# Altium schematic symbol library 可控硅.SchLib: 525 symbols (part 1 of 2)
Pins are listed as number, name and electrical type; pins without a type are passive.

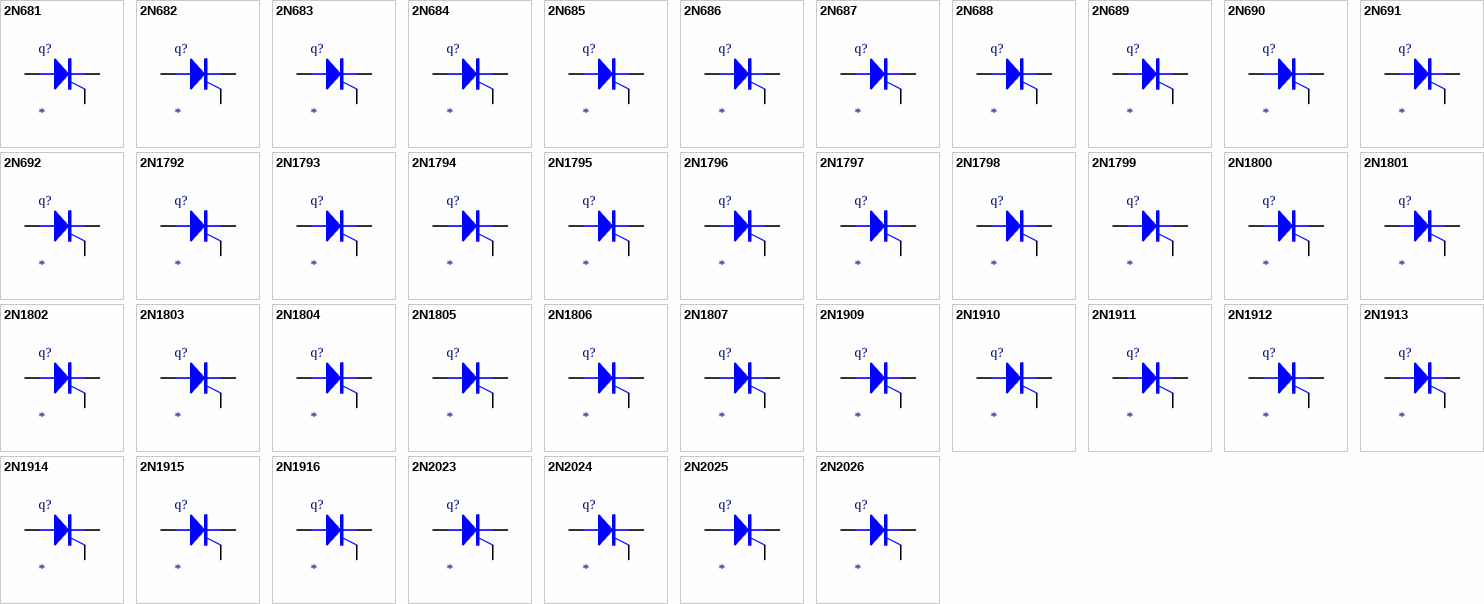
[diagram p0: symbols 2N681 to 2N2026]

## 2N681
designator q?
Silicon Controlled Rectifier
simulation model 2N681 (SUBCKT)
pins: 1 A, 2 G, 3 K
1 alternate drawing of the same symbol

## 2N682
designator q?
Silicon Controlled Rectifier
simulation model 2N682 (SUBCKT)
pins: 1 A, 2 G, 3 K
1 alternate drawing of the same symbol

## 2N683
designator q?
Silicon Controlled Rectifier
simulation model 2N683 (SUBCKT)
pins: 1 A, 2 G, 3 K
1 alternate drawing of the same symbol

## 2N684
designator q?
Silicon Controlled Rectifier
simulation model 2N684 (SUBCKT)
pins: 1 A, 2 G, 3 K
1 alternate drawing of the same symbol

## 2N685
designator q?
Silicon Controlled Rectifier
simulation model 2N685 (SUBCKT)
pins: 1 A, 2 G, 3 K
1 alternate drawing of the same symbol

## 2N686
designator q?
Silicon Controlled Rectifier
simulation model 2N686 (SUBCKT)
pins: 1 A, 2 G, 3 K
1 alternate drawing of the same symbol

## 2N687
designator q?
Silicon Controlled Rectifier
simulation model 2N687 (SUBCKT)
pins: 1 A, 2 G, 3 K
1 alternate drawing of the same symbol

## 2N688
designator q?
Silicon Controlled Rectifier
simulation model 2N688 (SUBCKT)
pins: 1 A, 2 G, 3 K
1 alternate drawing of the same symbol

## 2N689
designator q?
Silicon Controlled Rectifier
simulation model 2N689 (SUBCKT)
pins: 1 A, 2 G, 3 K
1 alternate drawing of the same symbol

## 2N690
designator q?
Silicon Controlled Rectifier
simulation model 2N690 (SUBCKT)
pins: 1 A, 2 G, 3 K
1 alternate drawing of the same symbol

## 2N691
designator q?
Silicon Controlled Rectifier
simulation model 2N691 (SUBCKT)
pins: 1 A, 2 G, 3 K
1 alternate drawing of the same symbol

## 2N692
designator q?
Silicon Controlled Rectifier
simulation model 2N692 (SUBCKT)
pins: 1 A, 2 G, 3 K
1 alternate drawing of the same symbol

## 2N1792
designator q?
Silicon Controlled Rectifier
simulation model 2N1792 (SUBCKT)
pins: 1 A, 2 G, 3 K
1 alternate drawing of the same symbol

## 2N1793
designator q?
Silicon Controlled Rectifier
simulation model 2N1793 (SUBCKT)
pins: 1 A, 2 G, 3 K
1 alternate drawing of the same symbol

## 2N1794
designator q?
Silicon Controlled Rectifier
simulation model 2N1794 (SUBCKT)
pins: 1 A, 2 G, 3 K
1 alternate drawing of the same symbol

## 2N1795
designator q?
Silicon Controlled Rectifier
simulation model 2N1795 (SUBCKT)
pins: 1 A, 2 G, 3 K
1 alternate drawing of the same symbol

## 2N1796
designator q?
Silicon Controlled Rectifier
simulation model 2N1796 (SUBCKT)
pins: 1 A, 2 G, 3 K
1 alternate drawing of the same symbol

## 2N1797
designator q?
Silicon Controlled Rectifier
simulation model 2N1797 (SUBCKT)
pins: 1 A, 2 G, 3 K
1 alternate drawing of the same symbol

## 2N1798
designator q?
Silicon Controlled Rectifier
simulation model 2N1798 (SUBCKT)
pins: 1 A, 2 G, 3 K
1 alternate drawing of the same symbol

## 2N1799
designator q?
Silicon Controlled Rectifier
simulation model 2N1799 (SUBCKT)
pins: 1 A, 2 G, 3 K
1 alternate drawing of the same symbol

## 2N1800
designator q?
Silicon Controlled Rectifier
simulation model 2N1800 (SUBCKT)
pins: 1 A, 2 G, 3 K
1 alternate drawing of the same symbol

## 2N1801
designator q?
Silicon Controlled Rectifier
simulation model 2N1801 (SUBCKT)
pins: 1 A, 2 G, 3 K
1 alternate drawing of the same symbol

## 2N1802
designator q?
Silicon Controlled Rectifier
simulation model 2N1802 (SUBCKT)
pins: 1 A, 2 G, 3 K
1 alternate drawing of the same symbol

## 2N1803
designator q?
Silicon Controlled Rectifier
simulation model 2N1803 (SUBCKT)
pins: 1 A, 2 G, 3 K
1 alternate drawing of the same symbol

## 2N1804
designator q?
Silicon Controlled Rectifier
simulation model 2N1804 (SUBCKT)
pins: 1 A, 2 G, 3 K
1 alternate drawing of the same symbol

## 2N1805
designator q?
Silicon Controlled Rectifier
simulation model 2N1805 (SUBCKT)
pins: 1 A, 2 G, 3 K
1 alternate drawing of the same symbol

## 2N1806
designator q?
Silicon Controlled Rectifier
simulation model 2N1806 (SUBCKT)
pins: 1 A, 2 G, 3 K
1 alternate drawing of the same symbol

## 2N1807
designator q?
Silicon Controlled Rectifier
simulation model 2N1807 (SUBCKT)
pins: 1 A, 2 G, 3 K
1 alternate drawing of the same symbol

## 2N1909
designator q?
Silicon Controlled Rectifier
simulation model 2N1909 (SUBCKT)
pins: 1 A, 2 G, 3 K
1 alternate drawing of the same symbol

## 2N1910
designator q?
Silicon Controlled Rectifier
simulation model 2N1910 (SUBCKT)
pins: 1 A, 2 G, 3 K
1 alternate drawing of the same symbol

## 2N1911
designator q?
Silicon Controlled Rectifier
simulation model 2N1911 (SUBCKT)
pins: 1 A, 2 G, 3 K
1 alternate drawing of the same symbol

## 2N1912
designator q?
Silicon Controlled Rectifier
simulation model 2N1912 (SUBCKT)
pins: 1 A, 2 G, 3 K
1 alternate drawing of the same symbol

## 2N1913
designator q?
Silicon Controlled Rectifier
simulation model 2N1913 (SUBCKT)
pins: 1 A, 2 G, 3 K
1 alternate drawing of the same symbol

## 2N1914
designator q?
Silicon Controlled Rectifier
simulation model 2N1914 (SUBCKT)
pins: 1 A, 2 G, 3 K
1 alternate drawing of the same symbol

## 2N1915
designator q?
Silicon Controlled Rectifier
simulation model 2N1915 (SUBCKT)
pins: 1 A, 2 G, 3 K
1 alternate drawing of the same symbol

## 2N1916
designator q?
Silicon Controlled Rectifier
simulation model 2N1916 (SUBCKT)
pins: 1 A, 2 G, 3 K
1 alternate drawing of the same symbol

## 2N2023
designator q?
Silicon Controlled Rectifier
simulation model 2N2023 (SUBCKT)
pins: 1 A, 2 G, 3 K
1 alternate drawing of the same symbol

## 2N2024
designator q?
Silicon Controlled Rectifier
simulation model 2N2024 (SUBCKT)
pins: 1 A, 2 G, 3 K
1 alternate drawing of the same symbol

## 2N2025
designator q?
Silicon Controlled Rectifier
simulation model 2N2025 (SUBCKT)
pins: 1 A, 2 G, 3 K
1 alternate drawing of the same symbol

## 2N2026
designator q?
Silicon Controlled Rectifier
simulation model 2N2026 (SUBCKT)
pins: 1 A, 2 G, 3 K
1 alternate drawing of the same symbol

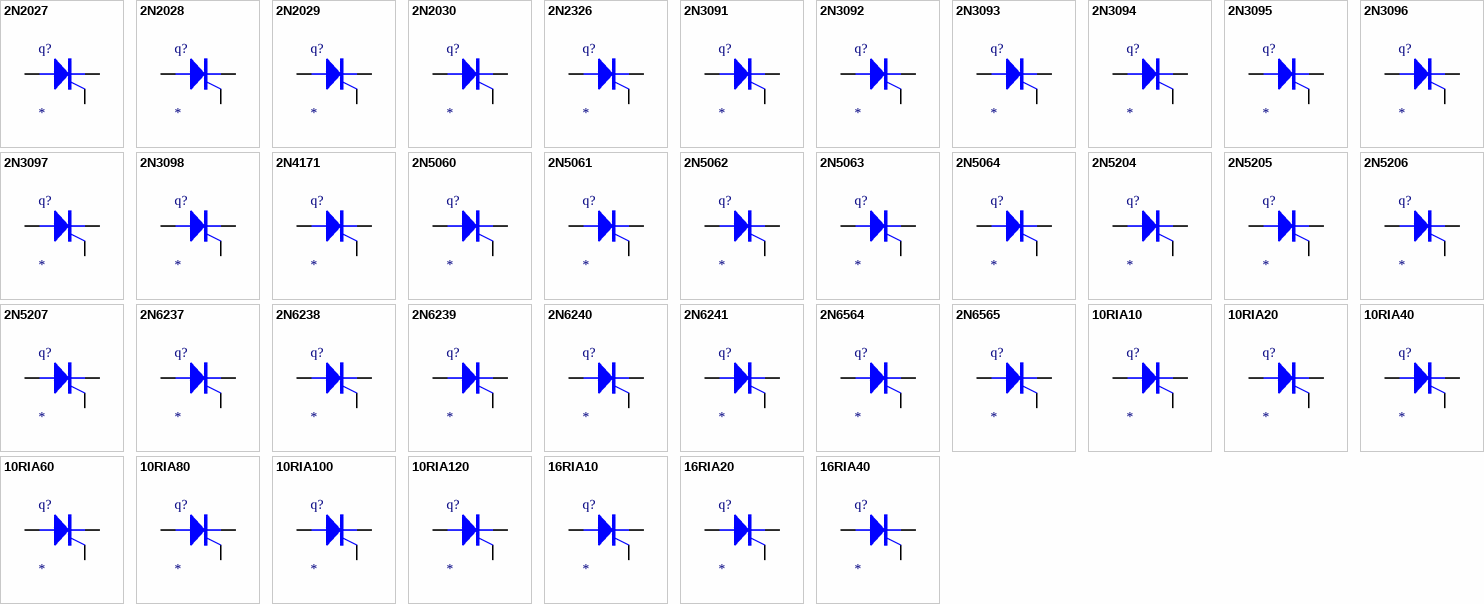
[diagram p1: symbols 2N2027 to 16RIA40]

## 2N2027
designator q?
Silicon Controlled Rectifier
simulation model 2N2027 (SUBCKT)
pins: 1 A, 2 G, 3 K
1 alternate drawing of the same symbol

## 2N2028
designator q?
Silicon Controlled Rectifier
simulation model 2N2028 (SUBCKT)
pins: 1 A, 2 G, 3 K
1 alternate drawing of the same symbol

## 2N2029
designator q?
Silicon Controlled Rectifier
simulation model 2N2029 (SUBCKT)
pins: 1 A, 2 G, 3 K
1 alternate drawing of the same symbol

## 2N2030
designator q?
Silicon Controlled Rectifier
simulation model 2N2030 (SUBCKT)
pins: 1 A, 2 G, 3 K
1 alternate drawing of the same symbol

## 2N2326
designator q?
Silicon Controlled Rectifier
simulation model 2N2326 (SUBCKT)
pins: 1 A, 2 G, 3 K
1 alternate drawing of the same symbol

## 2N3091
designator q?
Silicon Controlled Rectifier
simulation model 2N3091 (SUBCKT)
pins: 1 A, 2 G, 3 K
1 alternate drawing of the same symbol

## 2N3092
designator q?
Silicon Controlled Rectifier
simulation model 2N3092 (SUBCKT)
pins: 1 A, 2 G, 3 K
1 alternate drawing of the same symbol

## 2N3093
designator q?
Silicon Controlled Rectifier
simulation model 2N3093 (SUBCKT)
pins: 1 A, 2 G, 3 K
1 alternate drawing of the same symbol

## 2N3094
designator q?
Silicon Controlled Rectifier
simulation model 2N3094 (SUBCKT)
pins: 1 A, 2 G, 3 K
1 alternate drawing of the same symbol

## 2N3095
designator q?
Silicon Controlled Rectifier
simulation model 2N3095 (SUBCKT)
pins: 1 A, 2 G, 3 K
1 alternate drawing of the same symbol

## 2N3096
designator q?
Silicon Controlled Rectifier
simulation model 2N3096 (SUBCKT)
pins: 1 A, 2 G, 3 K
1 alternate drawing of the same symbol

## 2N3097
designator q?
Silicon Controlled Rectifier
simulation model 2N3097 (SUBCKT)
pins: 1 A, 2 G, 3 K
1 alternate drawing of the same symbol

## 2N3098
designator q?
Silicon Controlled Rectifier
simulation model 2N3098 (SUBCKT)
pins: 1 A, 2 G, 3 K
1 alternate drawing of the same symbol

## 2N4171
designator q?
Silicon Controlled Rectifier
simulation model 2N4171 (SUBCKT)
pins: 1 A, 2 G, 3 K
1 alternate drawing of the same symbol

## 2N5060
designator q?
Silicon Controlled Rectifier
simulation model 2N5060 (SUBCKT)
pins: 1 A, 2 G, 3 K
1 alternate drawing of the same symbol

## 2N5061
designator q?
Silicon Controlled Rectifier
simulation model 2N5061 (SUBCKT)
pins: 1 A, 2 G, 3 K
1 alternate drawing of the same symbol

## 2N5062
designator q?
Silicon Controlled Rectifier
simulation model 2N5062 (SUBCKT)
pins: 1 A, 2 G, 3 K
1 alternate drawing of the same symbol

## 2N5063
designator q?
Silicon Controlled Rectifier
simulation model 2N5063 (SUBCKT)
pins: 1 A, 2 G, 3 K
1 alternate drawing of the same symbol

## 2N5064
designator q?
Silicon Controlled Rectifier
simulation model 2N5064 (SUBCKT)
pins: 1 A, 2 G, 3 K
1 alternate drawing of the same symbol

## 2N5204
designator q?
Silicon Controlled Rectifier
simulation model 2N5204 (SUBCKT)
pins: 1 A, 2 G, 3 K
1 alternate drawing of the same symbol

## 2N5205
designator q?
Silicon Controlled Rectifier
simulation model 2N5205 (SUBCKT)
pins: 1 A, 2 G, 3 K
1 alternate drawing of the same symbol

## 2N5206
designator q?
Silicon Controlled Rectifier
simulation model 2N5206 (SUBCKT)
pins: 1 A, 2 G, 3 K
1 alternate drawing of the same symbol

## 2N5207
designator q?
Silicon Controlled Rectifier
simulation model 2N5207 (SUBCKT)
pins: 1 A, 2 G, 3 K
1 alternate drawing of the same symbol

## 2N6237
designator q?
Silicon Controlled Rectifier
simulation model 2N6237 (SUBCKT)
pins: 1 A, 2 G, 3 K
1 alternate drawing of the same symbol

## 2N6238
designator q?
Silicon Controlled Rectifier
simulation model 2N6238 (SUBCKT)
pins: 1 A, 2 G, 3 K
1 alternate drawing of the same symbol

## 2N6239
designator q?
Silicon Controlled Rectifier
simulation model 2N6239 (SUBCKT)
pins: 1 A, 2 G, 3 K
1 alternate drawing of the same symbol

## 2N6240
designator q?
Silicon Controlled Rectifier
simulation model 2N6240 (SUBCKT)
pins: 1 A, 2 G, 3 K
1 alternate drawing of the same symbol

## 2N6241
designator q?
Silicon Controlled Rectifier
simulation model 2N6241 (SUBCKT)
pins: 1 A, 2 G, 3 K
1 alternate drawing of the same symbol

## 2N6564
designator q?
Silicon Controlled Rectifier
simulation model 2N6564 (SUBCKT)
pins: 1 A, 2 G, 3 K
1 alternate drawing of the same symbol

## 2N6565
designator q?
Silicon Controlled Rectifier
simulation model 2N6565 (SUBCKT)
pins: 1 A, 2 G, 3 K
1 alternate drawing of the same symbol

## 10RIA10
designator q?
Silicon Controlled Rectifier
simulation model 10RIA10 (SUBCKT)
pins: 1 A, 2 G, 3 K
1 alternate drawing of the same symbol

## 10RIA20
designator q?
Silicon Controlled Rectifier
simulation model 10RIA20 (SUBCKT)
pins: 1 A, 2 G, 3 K
1 alternate drawing of the same symbol

## 10RIA40
designator q?
Silicon Controlled Rectifier
simulation model 10RIA40 (SUBCKT)
pins: 1 A, 2 G, 3 K
1 alternate drawing of the same symbol

## 10RIA60
designator q?
Silicon Controlled Rectifier
simulation model 10RIA60 (SUBCKT)
pins: 1 A, 2 G, 3 K
1 alternate drawing of the same symbol

## 10RIA80
designator q?
Silicon Controlled Rectifier
simulation model 10RIA80 (SUBCKT)
pins: 1 A, 2 G, 3 K
1 alternate drawing of the same symbol

## 10RIA100
designator q?
Silicon Controlled Rectifier
simulation model 10RIA100 (SUBCKT)
pins: 1 A, 2 G, 3 K
1 alternate drawing of the same symbol

## 10RIA120
designator q?
Silicon Controlled Rectifier
simulation model 10RIA120 (SUBCKT)
pins: 1 A, 2 G, 3 K
1 alternate drawing of the same symbol

## 16RIA10
designator q?
Silicon Controlled Rectifier
simulation model 16RIA10 (SUBCKT)
pins: 1 A, 2 G, 3 K
1 alternate drawing of the same symbol

## 16RIA20
designator q?
Silicon Controlled Rectifier
simulation model 16RIA20 (SUBCKT)
pins: 1 A, 2 G, 3 K
1 alternate drawing of the same symbol

## 16RIA40
designator q?
Silicon Controlled Rectifier
simulation model 16RIA40 (SUBCKT)
pins: 1 A, 2 G, 3 K
1 alternate drawing of the same symbol

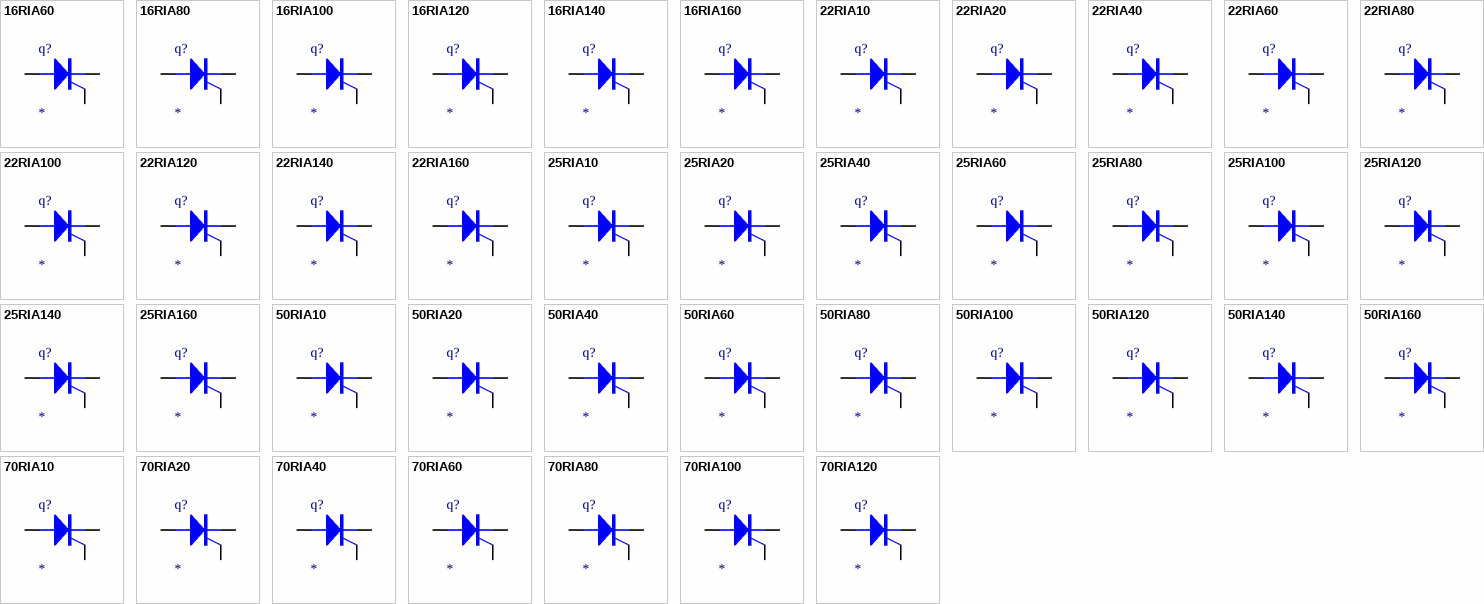
[diagram p2: symbols 16RIA60 to 70RIA120]

## 16RIA60
designator q?
Silicon Controlled Rectifier
simulation model 16RIA60 (SUBCKT)
pins: 1 A, 2 G, 3 K
1 alternate drawing of the same symbol

## 16RIA80
designator q?
Silicon Controlled Rectifier
simulation model 16RIA80 (SUBCKT)
pins: 1 A, 2 G, 3 K
1 alternate drawing of the same symbol

## 16RIA100
designator q?
Silicon Controlled Rectifier
simulation model 16RIA100 (SUBCKT)
pins: 1 A, 2 G, 3 K
1 alternate drawing of the same symbol

## 16RIA120
designator q?
Silicon Controlled Rectifier
simulation model 16RIA120 (SUBCKT)
pins: 1 A, 2 G, 3 K
1 alternate drawing of the same symbol

## 16RIA140
designator q?
Silicon Controlled Rectifier
simulation model 16RIA140 (SUBCKT)
pins: 1 A, 2 G, 3 K
1 alternate drawing of the same symbol

## 16RIA160
designator q?
Silicon Controlled Rectifier
simulation model 16RIA160 (SUBCKT)
pins: 1 A, 2 G, 3 K
1 alternate drawing of the same symbol

## 22RIA10
designator q?
Silicon Controlled Rectifier
simulation model 22RIA10 (SUBCKT)
pins: 1 A, 2 G, 3 K
1 alternate drawing of the same symbol

## 22RIA20
designator q?
Silicon Controlled Rectifier
simulation model 22RIA20 (SUBCKT)
pins: 1 A, 2 G, 3 K
1 alternate drawing of the same symbol

## 22RIA40
designator q?
Silicon Controlled Rectifier
simulation model 22RIA40 (SUBCKT)
pins: 1 A, 2 G, 3 K
1 alternate drawing of the same symbol

## 22RIA60
designator q?
Silicon Controlled Rectifier
simulation model 22RIA60 (SUBCKT)
pins: 1 A, 2 G, 3 K
1 alternate drawing of the same symbol

## 22RIA80
designator q?
Silicon Controlled Rectifier
simulation model 22RIA80 (SUBCKT)
pins: 1 A, 2 G, 3 K
1 alternate drawing of the same symbol

## 22RIA100
designator q?
Silicon Controlled Rectifier
simulation model 22RIA100 (SUBCKT)
pins: 1 A, 2 G, 3 K
1 alternate drawing of the same symbol

## 22RIA120
designator q?
Silicon Controlled Rectifier
simulation model 22RIA120 (SUBCKT)
pins: 1 A, 2 G, 3 K
1 alternate drawing of the same symbol

## 22RIA140
designator q?
Silicon Controlled Rectifier
simulation model 22RIA140 (SUBCKT)
pins: 1 A, 2 G, 3 K
1 alternate drawing of the same symbol

## 22RIA160
designator q?
Silicon Controlled Rectifier
simulation model 22RIA160 (SUBCKT)
pins: 1 A, 2 G, 3 K
1 alternate drawing of the same symbol

## 25RIA10
designator q?
Silicon Controlled Rectifier
simulation model 25RIA10 (SUBCKT)
pins: 1 A, 2 G, 3 K
1 alternate drawing of the same symbol

## 25RIA20
designator q?
Silicon Controlled Rectifier
simulation model 25RIA20 (SUBCKT)
pins: 1 A, 2 G, 3 K
1 alternate drawing of the same symbol

## 25RIA40
designator q?
Silicon Controlled Rectifier
simulation model 25RIA40 (SUBCKT)
pins: 1 A, 2 G, 3 K
1 alternate drawing of the same symbol

## 25RIA60
designator q?
Silicon Controlled Rectifier
simulation model 25RIA60 (SUBCKT)
pins: 1 A, 2 G, 3 K
1 alternate drawing of the same symbol

## 25RIA80
designator q?
Silicon Controlled Rectifier
simulation model 25RIA80 (SUBCKT)
pins: 1 A, 2 G, 3 K
1 alternate drawing of the same symbol

## 25RIA100
designator q?
Silicon Controlled Rectifier
simulation model 25RIA100 (SUBCKT)
pins: 1 A, 2 G, 3 K
1 alternate drawing of the same symbol

## 25RIA120
designator q?
Silicon Controlled Rectifier
simulation model 25RIA120 (SUBCKT)
pins: 1 A, 2 G, 3 K
1 alternate drawing of the same symbol

## 25RIA140
designator q?
Silicon Controlled Rectifier
simulation model 25RIA140 (SUBCKT)
pins: 1 A, 2 G, 3 K
1 alternate drawing of the same symbol

## 25RIA160
designator q?
Silicon Controlled Rectifier
simulation model 25RIA160 (SUBCKT)
pins: 1 A, 2 G, 3 K
1 alternate drawing of the same symbol

## 50RIA10
designator q?
Silicon Controlled Rectifier
simulation model 50RIA10 (SUBCKT)
pins: 1 A, 2 G, 3 K
1 alternate drawing of the same symbol

## 50RIA20
designator q?
Silicon Controlled Rectifier
simulation model 50RIA20 (SUBCKT)
pins: 1 A, 2 G, 3 K
1 alternate drawing of the same symbol

## 50RIA40
designator q?
Silicon Controlled Rectifier
simulation model 50RIA40 (SUBCKT)
pins: 1 A, 2 G, 3 K
1 alternate drawing of the same symbol

## 50RIA60
designator q?
Silicon Controlled Rectifier
simulation model 50RIA60 (SUBCKT)
pins: 1 A, 2 G, 3 K
1 alternate drawing of the same symbol

## 50RIA80
designator q?
Silicon Controlled Rectifier
simulation model 50RIA80 (SUBCKT)
pins: 1 A, 2 G, 3 K
1 alternate drawing of the same symbol

## 50RIA100
designator q?
Silicon Controlled Rectifier
simulation model 50RIA100 (SUBCKT)
pins: 1 A, 2 G, 3 K
1 alternate drawing of the same symbol

## 50RIA120
designator q?
Silicon Controlled Rectifier
simulation model 50RIA120 (SUBCKT)
pins: 1 A, 2 G, 3 K
1 alternate drawing of the same symbol

## 50RIA140
designator q?
Silicon Controlled Rectifier
simulation model 50RIA140 (SUBCKT)
pins: 1 A, 2 G, 3 K
1 alternate drawing of the same symbol

## 50RIA160
designator q?
Silicon Controlled Rectifier
simulation model 50RIA160 (SUBCKT)
pins: 1 A, 2 G, 3 K
1 alternate drawing of the same symbol

## 70RIA10
designator q?
Silicon Controlled Rectifier
simulation model 70RIA10 (SUBCKT)
pins: 1 A, 2 G, 3 K
1 alternate drawing of the same symbol

## 70RIA20
designator q?
Silicon Controlled Rectifier
simulation model 70RIA20 (SUBCKT)
pins: 1 A, 2 G, 3 K
1 alternate drawing of the same symbol

## 70RIA40
designator q?
Silicon Controlled Rectifier
simulation model 70RIA40 (SUBCKT)
pins: 1 A, 2 G, 3 K
1 alternate drawing of the same symbol

## 70RIA60
designator q?
Silicon Controlled Rectifier
simulation model 70RIA60 (SUBCKT)
pins: 1 A, 2 G, 3 K
1 alternate drawing of the same symbol

## 70RIA80
designator q?
Silicon Controlled Rectifier
simulation model 70RIA80 (SUBCKT)
pins: 1 A, 2 G, 3 K
1 alternate drawing of the same symbol

## 70RIA100
designator q?
Silicon Controlled Rectifier
simulation model 70RIA100 (SUBCKT)
pins: 1 A, 2 G, 3 K
1 alternate drawing of the same symbol

## 70RIA120
designator q?
Silicon Controlled Rectifier
simulation model 70RIA120 (SUBCKT)
pins: 1 A, 2 G, 3 K
1 alternate drawing of the same symbol

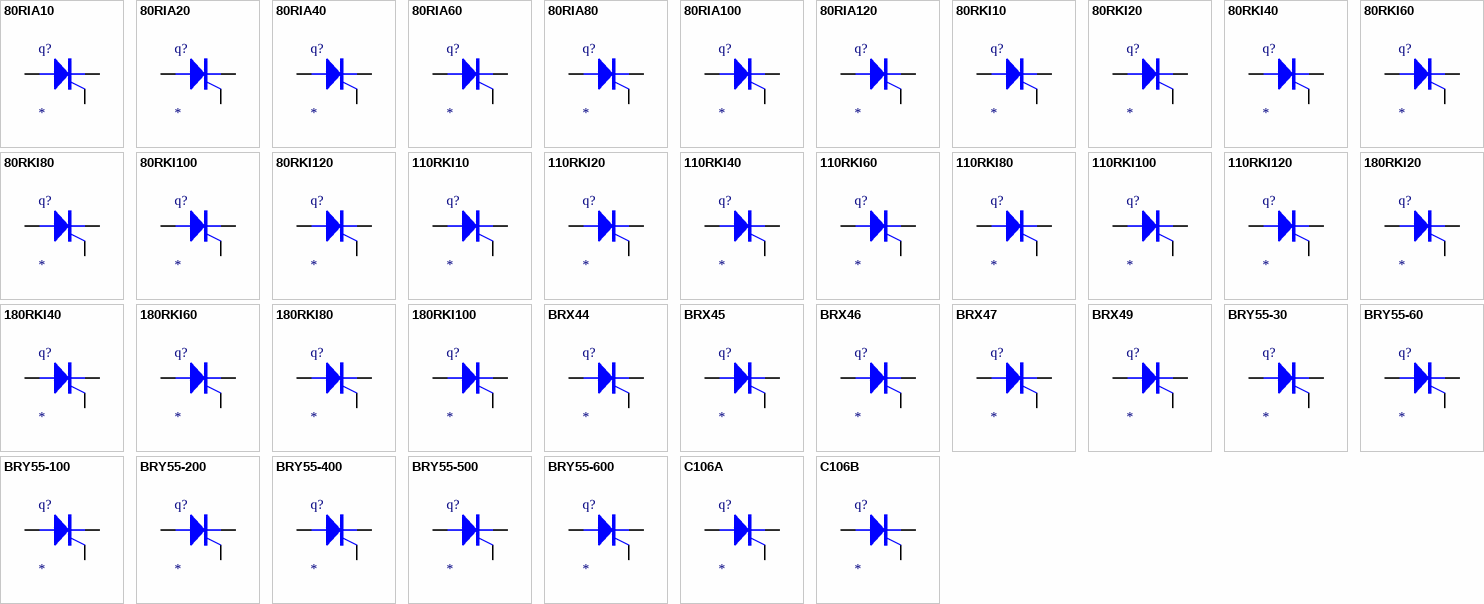
[diagram p3: symbols 80RIA10 to C106B]

## 80RIA10
designator q?
Silicon Controlled Rectifier
simulation model 80RIA10 (SUBCKT)
pins: 1 A, 2 G, 3 K
1 alternate drawing of the same symbol

## 80RIA20
designator q?
Silicon Controlled Rectifier
simulation model 80RIA20 (SUBCKT)
pins: 1 A, 2 G, 3 K
1 alternate drawing of the same symbol

## 80RIA40
designator q?
Silicon Controlled Rectifier
simulation model 80RIA40 (SUBCKT)
pins: 1 A, 2 G, 3 K
1 alternate drawing of the same symbol

## 80RIA60
designator q?
Silicon Controlled Rectifier
simulation model 80RIA60 (SUBCKT)
pins: 1 A, 2 G, 3 K
1 alternate drawing of the same symbol

## 80RIA80
designator q?
Silicon Controlled Rectifier
simulation model 80RIA80 (SUBCKT)
pins: 1 A, 2 G, 3 K
1 alternate drawing of the same symbol

## 80RIA100
designator q?
Silicon Controlled Rectifier
simulation model 80RIA100 (SUBCKT)
pins: 1 A, 2 G, 3 K
1 alternate drawing of the same symbol

## 80RIA120
designator q?
Silicon Controlled Rectifier
simulation model 80RIA120 (SUBCKT)
pins: 1 A, 2 G, 3 K
1 alternate drawing of the same symbol

## 80RKI10
designator q?
Silicon Controlled Rectifier
simulation model 80RKI10 (SUBCKT)
pins: 1 A, 2 G, 3 K
1 alternate drawing of the same symbol

## 80RKI20
designator q?
Silicon Controlled Rectifier
simulation model 80RKI20 (SUBCKT)
pins: 1 A, 2 G, 3 K
1 alternate drawing of the same symbol

## 80RKI40
designator q?
Silicon Controlled Rectifier
simulation model 80RKI40 (SUBCKT)
pins: 1 A, 2 G, 3 K
1 alternate drawing of the same symbol

## 80RKI60
designator q?
Silicon Controlled Rectifier
simulation model 80RKI60 (SUBCKT)
pins: 1 A, 2 G, 3 K
1 alternate drawing of the same symbol

## 80RKI80
designator q?
Silicon Controlled Rectifier
simulation model 80RKI80 (SUBCKT)
pins: 1 A, 2 G, 3 K
1 alternate drawing of the same symbol

## 80RKI100
designator q?
Silicon Controlled Rectifier
simulation model 80RKI100 (SUBCKT)
pins: 1 A, 2 G, 3 K
1 alternate drawing of the same symbol

## 80RKI120
designator q?
Silicon Controlled Rectifier
simulation model 80RKI120 (SUBCKT)
pins: 1 A, 2 G, 3 K
1 alternate drawing of the same symbol

## 110RKI10
designator q?
Silicon Controlled Rectifier
simulation model 110RKI10 (SUBCKT)
pins: 1 A, 2 G, 3 K
1 alternate drawing of the same symbol

## 110RKI20
designator q?
Silicon Controlled Rectifier
simulation model 110RKI20 (SUBCKT)
pins: 1 A, 2 G, 3 K
1 alternate drawing of the same symbol

## 110RKI40
designator q?
Silicon Controlled Rectifier
simulation model 110RKI40 (SUBCKT)
pins: 1 A, 2 G, 3 K
1 alternate drawing of the same symbol

## 110RKI60
designator q?
Silicon Controlled Rectifier
simulation model 110RKI60 (SUBCKT)
pins: 1 A, 2 G, 3 K
1 alternate drawing of the same symbol

## 110RKI80
designator q?
Silicon Controlled Rectifier
simulation model 110RKI80 (SUBCKT)
pins: 1 A, 2 G, 3 K
1 alternate drawing of the same symbol

## 110RKI100
designator q?
Silicon Controlled Rectifier
simulation model 110RKI100 (SUBCKT)
pins: 1 A, 2 G, 3 K
1 alternate drawing of the same symbol

## 110RKI120
designator q?
Silicon Controlled Rectifier
simulation model 110RKI120 (SUBCKT)
pins: 1 A, 2 G, 3 K
1 alternate drawing of the same symbol

## 180RKI20
designator q?
Silicon Controlled Rectifier
simulation model 180RKI20 (SUBCKT)
pins: 1 A, 2 G, 3 K
1 alternate drawing of the same symbol

## 180RKI40
designator q?
Silicon Controlled Rectifier
simulation model 180RKI40 (SUBCKT)
pins: 1 A, 2 G, 3 K
1 alternate drawing of the same symbol

## 180RKI60
designator q?
Silicon Controlled Rectifier
simulation model 180RKI60 (SUBCKT)
pins: 1 A, 2 G, 3 K
1 alternate drawing of the same symbol

## 180RKI80
designator q?
Silicon Controlled Rectifier
simulation model 180RKI80 (SUBCKT)
pins: 1 A, 2 G, 3 K
1 alternate drawing of the same symbol

## 180RKI100
designator q?
Silicon Controlled Rectifier
simulation model 180RKI100 (SUBCKT)
pins: 1 A, 2 G, 3 K
1 alternate drawing of the same symbol

## BRX44
designator q?
Silicon Controlled Rectifier
simulation model BRX44 (SUBCKT)
pins: 1 A, 2 G, 3 K
1 alternate drawing of the same symbol

## BRX45
designator q?
Silicon Controlled Rectifier
simulation model BRX45 (SUBCKT)
pins: 1 A, 2 G, 3 K
1 alternate drawing of the same symbol

## BRX46
designator q?
Silicon Controlled Rectifier
simulation model BRX46 (SUBCKT)
pins: 1 A, 2 G, 3 K
1 alternate drawing of the same symbol

## BRX47
designator q?
Silicon Controlled Rectifier
simulation model BRX47 (SUBCKT)
pins: 1 A, 2 G, 3 K
1 alternate drawing of the same symbol

## BRX49
designator q?
Silicon Controlled Rectifier
simulation model BRX49 (SUBCKT)
pins: 1 A, 2 G, 3 K
1 alternate drawing of the same symbol

## BRY55-30
designator q?
Silicon Controlled Rectifier
simulation model BRY55-30 (SUBCKT)
pins: 1 A, 2 G, 3 K
1 alternate drawing of the same symbol

## BRY55-60
designator q?
Silicon Controlled Rectifier
simulation model BRY55-60 (SUBCKT)
pins: 1 A, 2 G, 3 K
1 alternate drawing of the same symbol

## BRY55-100
designator q?
Silicon Controlled Rectifier
simulation model BRY55-100 (SUBCKT)
pins: 1 A, 2 G, 3 K
1 alternate drawing of the same symbol

## BRY55-200
designator q?
Silicon Controlled Rectifier
simulation model BRY55-200 (SUBCKT)
pins: 1 A, 2 G, 3 K
1 alternate drawing of the same symbol

## BRY55-400
designator q?
Silicon Controlled Rectifier
simulation model BRY55-400 (SUBCKT)
pins: 1 A, 2 G, 3 K
1 alternate drawing of the same symbol

## BRY55-500
designator q?
Silicon Controlled Rectifier
simulation model BRY55-500 (SUBCKT)
pins: 1 A, 2 G, 3 K
1 alternate drawing of the same symbol

## BRY55-600
designator q?
Silicon Controlled Rectifier
simulation model BRY55-600 (SUBCKT)
pins: 1 A, 2 G, 3 K
1 alternate drawing of the same symbol

## C106A
designator q?
Silicon Controlled Rectifier
simulation model C106A (SUBCKT)
pins: 1 A, 2 G, 3 K
1 alternate drawing of the same symbol

## C106B
designator q?
Silicon Controlled Rectifier
simulation model C106B (SUBCKT)
pins: 1 A, 2 G, 3 K
1 alternate drawing of the same symbol

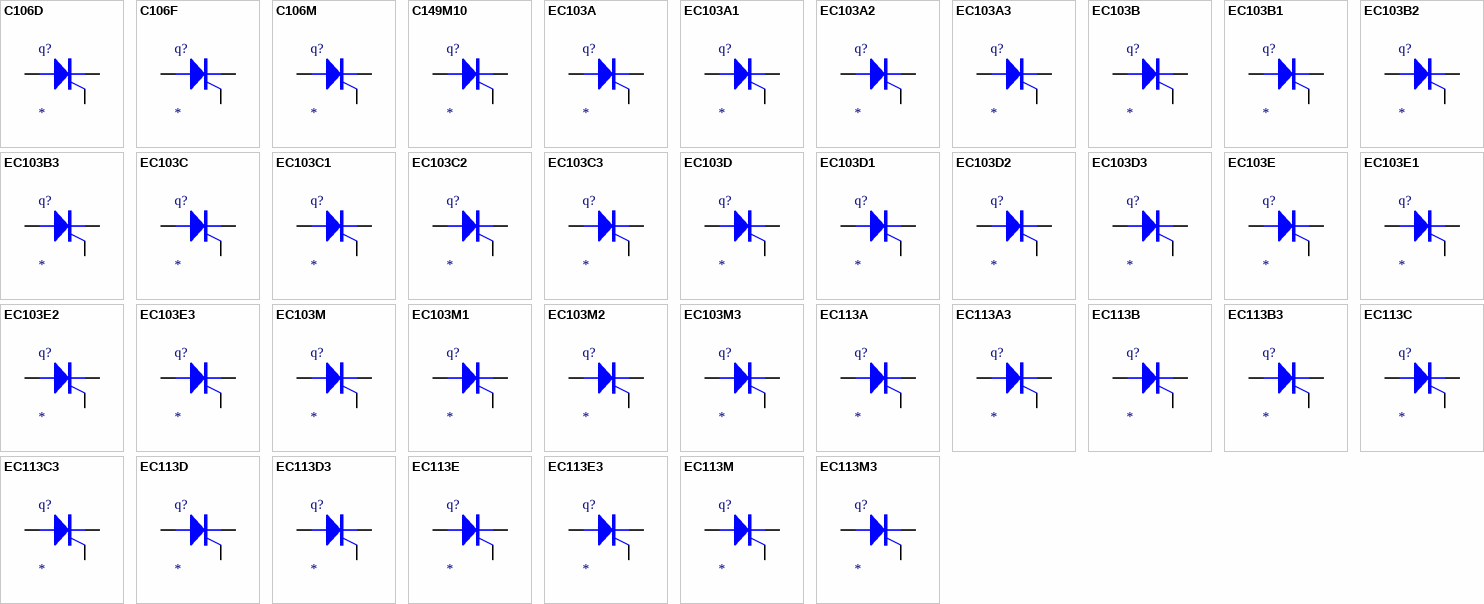
[diagram p4: symbols C106D to EC113M3]

## C106D
designator q?
Silicon Controlled Rectifier
simulation model C106D (SUBCKT)
pins: 1 A, 2 G, 3 K
1 alternate drawing of the same symbol

## C106F
designator q?
Silicon Controlled Rectifier
simulation model C106F (SUBCKT)
pins: 1 A, 2 G, 3 K
1 alternate drawing of the same symbol

## C106M
designator q?
Silicon Controlled Rectifier
simulation model C106M (SUBCKT)
pins: 1 A, 2 G, 3 K
1 alternate drawing of the same symbol

## C149M10
designator q?
Silicon Controlled Rectifier
simulation model C149M10 (SUBCKT)
pins: 1 A, 2 G, 3 K
1 alternate drawing of the same symbol

## EC103A
designator q?
Silicon Controlled Rectifier
simulation model EC103A (SUBCKT)
pins: 1 A, 2 G, 3 K
1 alternate drawing of the same symbol

## EC103A1
designator q?
Silicon Controlled Rectifier
simulation model EC103A1 (SUBCKT)
pins: 1 A, 2 G, 3 K
1 alternate drawing of the same symbol

## EC103A2
designator q?
Silicon Controlled Rectifier
simulation model EC103A2 (SUBCKT)
pins: 1 A, 2 G, 3 K
1 alternate drawing of the same symbol

## EC103A3
designator q?
Silicon Controlled Rectifier
simulation model EC103A3 (SUBCKT)
pins: 1 A, 2 G, 3 K
1 alternate drawing of the same symbol

## EC103B
designator q?
Silicon Controlled Rectifier
simulation model EC103B (SUBCKT)
pins: 1 A, 2 G, 3 K
1 alternate drawing of the same symbol

## EC103B1
designator q?
Silicon Controlled Rectifier
simulation model EC103B1 (SUBCKT)
pins: 1 A, 2 G, 3 K
1 alternate drawing of the same symbol

## EC103B2
designator q?
Silicon Controlled Rectifier
simulation model EC103B2 (SUBCKT)
pins: 1 A, 2 G, 3 K
1 alternate drawing of the same symbol

## EC103B3
designator q?
Silicon Controlled Rectifier
simulation model EC103B3 (SUBCKT)
pins: 1 A, 2 G, 3 K
1 alternate drawing of the same symbol

## EC103C
designator q?
Silicon Controlled Rectifier
simulation model EC103C (SUBCKT)
pins: 1 A, 2 G, 3 K
1 alternate drawing of the same symbol

## EC103C1
designator q?
Silicon Controlled Rectifier
simulation model EC103C1 (SUBCKT)
pins: 1 A, 2 G, 3 K
1 alternate drawing of the same symbol

## EC103C2
designator q?
Silicon Controlled Rectifier
simulation model EC103C2 (SUBCKT)
pins: 1 A, 2 G, 3 K
1 alternate drawing of the same symbol

## EC103C3
designator q?
Silicon Controlled Rectifier
simulation model EC103C3 (SUBCKT)
pins: 1 A, 2 G, 3 K
1 alternate drawing of the same symbol

## EC103D
designator q?
Silicon Controlled Rectifier
simulation model EC103D (SUBCKT)
pins: 1 A, 2 G, 3 K
1 alternate drawing of the same symbol

## EC103D1
designator q?
Silicon Controlled Rectifier
simulation model EC103D1 (SUBCKT)
pins: 1 A, 2 G, 3 K
1 alternate drawing of the same symbol

## EC103D2
designator q?
Silicon Controlled Rectifier
simulation model EC103D2 (SUBCKT)
pins: 1 A, 2 G, 3 K
1 alternate drawing of the same symbol

## EC103D3
designator q?
Silicon Controlled Rectifier
simulation model EC103D3 (SUBCKT)
pins: 1 A, 2 G, 3 K
1 alternate drawing of the same symbol

## EC103E
designator q?
Silicon Controlled Rectifier
simulation model EC103E (SUBCKT)
pins: 1 A, 2 G, 3 K
1 alternate drawing of the same symbol

## EC103E1
designator q?
Silicon Controlled Rectifier
simulation model EC103E1 (SUBCKT)
pins: 1 A, 2 G, 3 K
1 alternate drawing of the same symbol

## EC103E2
designator q?
Silicon Controlled Rectifier
simulation model EC103E2 (SUBCKT)
pins: 1 A, 2 G, 3 K
1 alternate drawing of the same symbol

## EC103E3
designator q?
Silicon Controlled Rectifier
simulation model EC103E3 (SUBCKT)
pins: 1 A, 2 G, 3 K
1 alternate drawing of the same symbol

## EC103M
designator q?
Silicon Controlled Rectifier
simulation model EC103M (SUBCKT)
pins: 1 A, 2 G, 3 K
1 alternate drawing of the same symbol

## EC103M1
designator q?
Silicon Controlled Rectifier
simulation model EC103M1 (SUBCKT)
pins: 1 A, 2 G, 3 K
1 alternate drawing of the same symbol

## EC103M2
designator q?
Silicon Controlled Rectifier
simulation model EC103M2 (SUBCKT)
pins: 1 A, 2 G, 3 K
1 alternate drawing of the same symbol

## EC103M3
designator q?
Silicon Controlled Rectifier
simulation model EC103M3 (SUBCKT)
pins: 1 A, 2 G, 3 K
1 alternate drawing of the same symbol

## EC113A
designator q?
Silicon Controlled Rectifier
simulation model EC113A (SUBCKT)
pins: 1 A, 2 G, 3 K
1 alternate drawing of the same symbol

## EC113A3
designator q?
Silicon Controlled Rectifier
simulation model EC113A3 (SUBCKT)
pins: 1 A, 2 G, 3 K
1 alternate drawing of the same symbol

## EC113B
designator q?
Silicon Controlled Rectifier
simulation model EC113B (SUBCKT)
pins: 1 A, 2 G, 3 K
1 alternate drawing of the same symbol

## EC113B3
designator q?
Silicon Controlled Rectifier
simulation model EC113B3 (SUBCKT)
pins: 1 A, 2 G, 3 K
1 alternate drawing of the same symbol

## EC113C
designator q?
Silicon Controlled Rectifier
simulation model EC113C (SUBCKT)
pins: 1 A, 2 G, 3 K
1 alternate drawing of the same symbol

## EC113C3
designator q?
Silicon Controlled Rectifier
simulation model EC113C3 (SUBCKT)
pins: 1 A, 2 G, 3 K
1 alternate drawing of the same symbol

## EC113D
designator q?
Silicon Controlled Rectifier
simulation model EC113D (SUBCKT)
pins: 1 A, 2 G, 3 K
1 alternate drawing of the same symbol

## EC113D3
designator q?
Silicon Controlled Rectifier
simulation model EC113D3 (SUBCKT)
pins: 1 A, 2 G, 3 K
1 alternate drawing of the same symbol

## EC113E
designator q?
Silicon Controlled Rectifier
simulation model EC113E (SUBCKT)
pins: 1 A, 2 G, 3 K
1 alternate drawing of the same symbol

## EC113E3
designator q?
Silicon Controlled Rectifier
simulation model EC113E3 (SUBCKT)
pins: 1 A, 2 G, 3 K
1 alternate drawing of the same symbol

## EC113M
designator q?
Silicon Controlled Rectifier
simulation model EC113M (SUBCKT)
pins: 1 A, 2 G, 3 K
1 alternate drawing of the same symbol

## EC113M3
designator q?
Silicon Controlled Rectifier
simulation model EC113M3 (SUBCKT)
pins: 1 A, 2 G, 3 K
1 alternate drawing of the same symbol

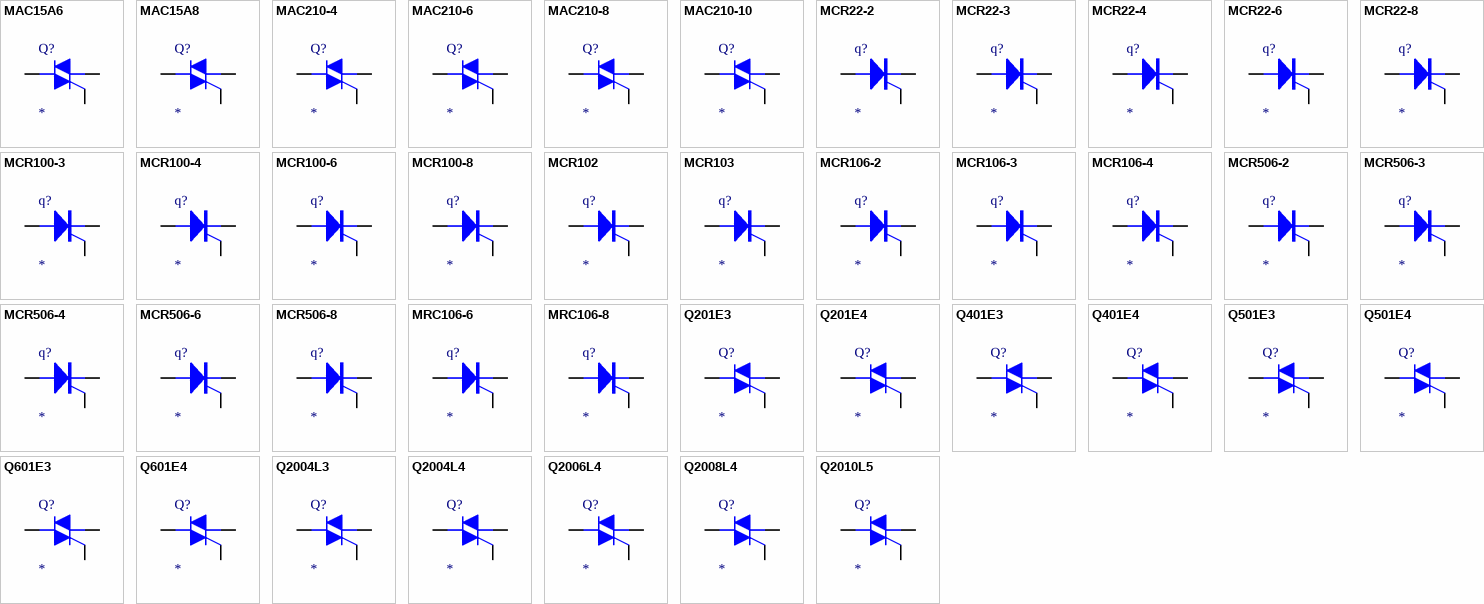
[diagram p5: symbols MAC15A6 to Q2010L5]

## MAC15A6
designator Q?
Triac
simulation model MAC15A6 (SUBCKT)
pins: 1 M1, 2 M2, 3 G
1 alternate drawing of the same symbol

## MAC15A8
designator Q?
Triac
simulation model MAC15A8 (SUBCKT)
pins: 1 M1, 2 M2, 3 G
1 alternate drawing of the same symbol

## MAC210-4
designator Q?
Triac
simulation model MAC210-4 (SUBCKT)
pins: 1 M1, 2 M2, 3 G
1 alternate drawing of the same symbol

## MAC210-6
designator Q?
Triac
simulation model MAC210-6 (SUBCKT)
pins: 1 M1, 2 M2, 3 G
1 alternate drawing of the same symbol

## MAC210-8
designator Q?
Triac
simulation model MAC210-8 (SUBCKT)
pins: 1 M1, 2 M2, 3 G
1 alternate drawing of the same symbol

## MAC210-10
designator Q?
Triac
simulation model MAC210-10 (SUBCKT)
pins: 1 M1, 2 M2, 3 G
1 alternate drawing of the same symbol

## MCR22-2
designator q?
Silicon Controlled Rectifier
simulation model MCR22-2 (SUBCKT)
pins: 1 A, 2 G, 3 K
1 alternate drawing of the same symbol

## MCR22-3
designator q?
Silicon Controlled Rectifier
simulation model MCR22-3 (SUBCKT)
pins: 1 A, 2 G, 3 K
1 alternate drawing of the same symbol

## MCR22-4
designator q?
Silicon Controlled Rectifier
simulation model MCR22-4 (SUBCKT)
pins: 1 A, 2 G, 3 K
1 alternate drawing of the same symbol

## MCR22-6
designator q?
Silicon Controlled Rectifier
simulation model MCR22-6 (SUBCKT)
pins: 1 A, 2 G, 3 K
1 alternate drawing of the same symbol

## MCR22-8
designator q?
Silicon Controlled Rectifier
simulation model MCR22-8 (SUBCKT)
pins: 1 A, 2 G, 3 K
1 alternate drawing of the same symbol

## MCR100-3
designator q?
Silicon Controlled Rectifier
simulation model MCR100-3 (SUBCKT)
pins: 1 A, 2 G, 3 K
1 alternate drawing of the same symbol

## MCR100-4
designator q?
Silicon Controlled Rectifier
simulation model MCR100-4 (SUBCKT)
pins: 1 A, 2 G, 3 K
1 alternate drawing of the same symbol

## MCR100-6
designator q?
Silicon Controlled Rectifier
simulation model MCR100-6 (SUBCKT)
pins: 1 A, 2 G, 3 K
1 alternate drawing of the same symbol

## MCR100-8
designator q?
Silicon Controlled Rectifier
simulation model MCR100-8 (SUBCKT)
pins: 1 A, 2 G, 3 K
1 alternate drawing of the same symbol

## MCR102
designator q?
Silicon Controlled Rectifier
simulation model MCR102 (SUBCKT)
pins: 1 A, 2 G, 3 K
1 alternate drawing of the same symbol

## MCR103
designator q?
Silicon Controlled Rectifier
simulation model MCR103 (SUBCKT)
pins: 1 A, 2 G, 3 K
1 alternate drawing of the same symbol

## MCR106-2
designator q?
Silicon Controlled Rectifier
simulation model MCR106-2 (SUBCKT)
pins: 1 A, 2 G, 3 K
1 alternate drawing of the same symbol

## MCR106-3
designator q?
Silicon Controlled Rectifier
simulation model MCR106-3 (SUBCKT)
pins: 1 A, 2 G, 3 K
1 alternate drawing of the same symbol

## MCR106-4
designator q?
Silicon Controlled Rectifier
simulation model MCR106-4 (SUBCKT)
pins: 1 A, 2 G, 3 K
1 alternate drawing of the same symbol

## MCR506-2
designator q?
Silicon Controlled Rectifier
simulation model MCR506-2 (SUBCKT)
pins: 1 A, 2 G, 3 K
1 alternate drawing of the same symbol

## MCR506-3
designator q?
Silicon Controlled Rectifier
simulation model MCR506-3 (SUBCKT)
pins: 1 A, 2 G, 3 K
1 alternate drawing of the same symbol

## MCR506-4
designator q?
Silicon Controlled Rectifier
simulation model MCR506-4 (SUBCKT)
pins: 1 A, 2 G, 3 K
1 alternate drawing of the same symbol

## MCR506-6
designator q?
Silicon Controlled Rectifier
simulation model MCR506-6 (SUBCKT)
pins: 1 A, 2 G, 3 K
1 alternate drawing of the same symbol

## MCR506-8
designator q?
Silicon Controlled Rectifier
simulation model MCR506-8 (SUBCKT)
pins: 1 A, 2 G, 3 K
1 alternate drawing of the same symbol

## MRC106-6
designator q?
Silicon Controlled Rectifier
simulation model MRC106-6 (SUBCKT)
pins: 1 A, 2 G, 3 K
1 alternate drawing of the same symbol

## MRC106-8
designator q?
Silicon Controlled Rectifier
simulation model MRC106-8 (SUBCKT)
pins: 1 A, 2 G, 3 K
1 alternate drawing of the same symbol

## Q201E3
designator Q?
Triac
simulation model Q201E3 (SUBCKT)
pins: 1 M1, 2 M2, 3 G
1 alternate drawing of the same symbol

## Q201E4
designator Q?
Triac
simulation model Q201E4 (SUBCKT)
pins: 1 M1, 2 M2, 3 G
1 alternate drawing of the same symbol

## Q401E3
designator Q?
Triac
simulation model Q401E3 (SUBCKT)
pins: 1 M1, 2 M2, 3 G
1 alternate drawing of the same symbol

## Q401E4
designator Q?
Triac
simulation model Q401E4 (SUBCKT)
pins: 1 M1, 2 M2, 3 G
1 alternate drawing of the same symbol

## Q501E3
designator Q?
Triac
simulation model Q501E3 (SUBCKT)
pins: 1 M1, 2 M2, 3 G
1 alternate drawing of the same symbol

## Q501E4
designator Q?
Triac
simulation model Q501E4 (SUBCKT)
pins: 1 M1, 2 M2, 3 G
1 alternate drawing of the same symbol

## Q601E3
designator Q?
Triac
simulation model Q601E3 (SUBCKT)
pins: 1 M1, 2 M2, 3 G
1 alternate drawing of the same symbol

## Q601E4
designator Q?
Triac
simulation model Q601E4 (SUBCKT)
pins: 1 M1, 2 M2, 3 G
1 alternate drawing of the same symbol

## Q2004L3
designator Q?
Triac
simulation model Q2004L3 (SUBCKT)
pins: 1 M1, 2 M2, 3 G
1 alternate drawing of the same symbol

## Q2004L4
designator Q?
Triac
simulation model Q2004L4 (SUBCKT)
pins: 1 M1, 2 M2, 3 G
1 alternate drawing of the same symbol

## Q2006L4
designator Q?
Triac
simulation model Q2006L4 (SUBCKT)
pins: 1 M1, 2 M2, 3 G
1 alternate drawing of the same symbol

## Q2008L4
designator Q?
Triac
simulation model Q2008L4 (SUBCKT)
pins: 1 M1, 2 M2, 3 G
1 alternate drawing of the same symbol

## Q2010L5
designator Q?
Triac
simulation model Q2010L5 (SUBCKT)
pins: 1 M1, 2 M2, 3 G
1 alternate drawing of the same symbol

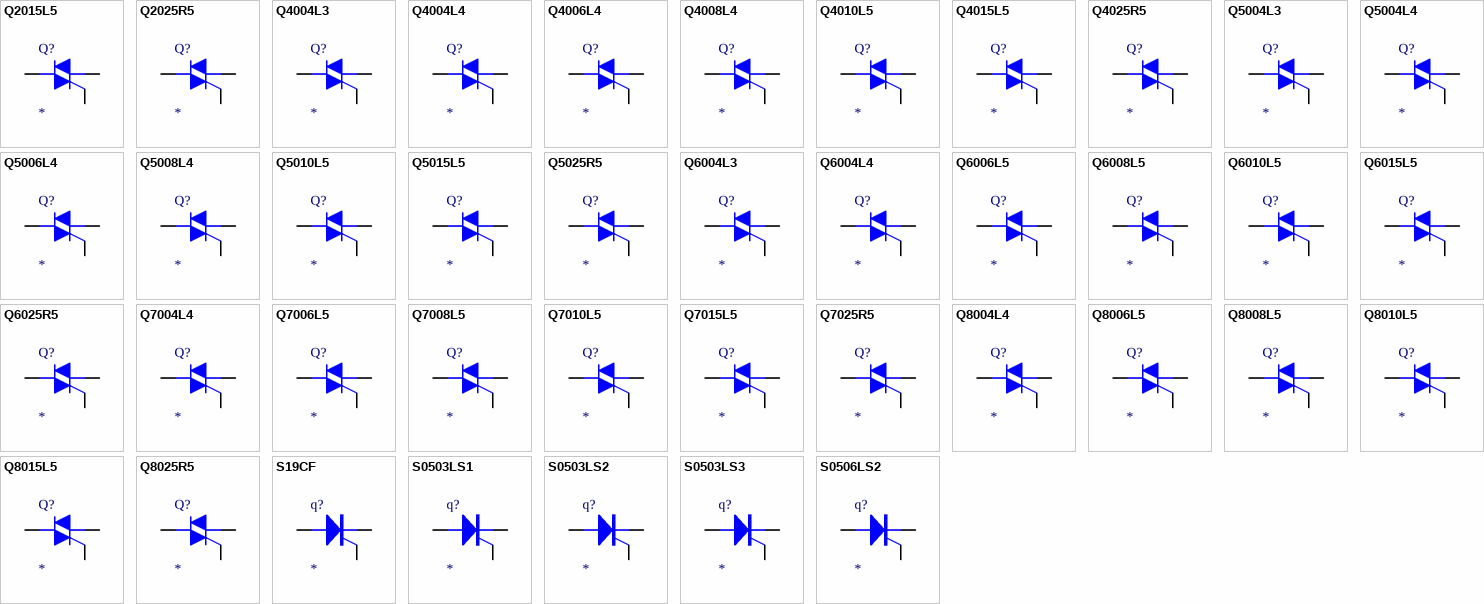
[diagram p6: symbols Q2015L5 to S0506LS2]

## Q2015L5
designator Q?
Triac
simulation model Q2015L5 (SUBCKT)
pins: 1 M1, 2 M2, 3 G
1 alternate drawing of the same symbol

## Q2025R5
designator Q?
Triac
simulation model Q2025R5 (SUBCKT)
pins: 1 M1, 2 M2, 3 G
1 alternate drawing of the same symbol

## Q4004L3
designator Q?
Triac
simulation model Q4004L3 (SUBCKT)
pins: 1 M1, 2 M2, 3 G
1 alternate drawing of the same symbol

## Q4004L4
designator Q?
Triac
simulation model Q4004L4 (SUBCKT)
pins: 1 M1, 2 M2, 3 G
1 alternate drawing of the same symbol

## Q4006L4
designator Q?
Triac
simulation model Q4006L4 (SUBCKT)
pins: 1 M1, 2 M2, 3 G
1 alternate drawing of the same symbol

## Q4008L4
designator Q?
Triac
simulation model Q4008L4 (SUBCKT)
pins: 1 M1, 2 M2, 3 G
1 alternate drawing of the same symbol

## Q4010L5
designator Q?
Triac
simulation model Q4010L5 (SUBCKT)
pins: 1 M1, 2 M2, 3 G
1 alternate drawing of the same symbol

## Q4015L5
designator Q?
Triac
simulation model Q4015L5 (SUBCKT)
pins: 1 M1, 2 M2, 3 G
1 alternate drawing of the same symbol

## Q4025R5
designator Q?
Triac
simulation model Q4025R5 (SUBCKT)
pins: 1 M1, 2 M2, 3 G
1 alternate drawing of the same symbol

## Q5004L3
designator Q?
Triac
simulation model Q5004L3 (SUBCKT)
pins: 1 M1, 2 M2, 3 G
1 alternate drawing of the same symbol

## Q5004L4
designator Q?
Triac
simulation model Q5004L4 (SUBCKT)
pins: 1 M1, 2 M2, 3 G
1 alternate drawing of the same symbol

## Q5006L4
designator Q?
Triac
simulation model Q5006L4 (SUBCKT)
pins: 1 M1, 2 M2, 3 G
1 alternate drawing of the same symbol

## Q5008L4
designator Q?
Triac
simulation model Q5008L4 (SUBCKT)
pins: 1 M1, 2 M2, 3 G
1 alternate drawing of the same symbol

## Q5010L5
designator Q?
Triac
simulation model Q5010L5 (SUBCKT)
pins: 1 M1, 2 M2, 3 G
1 alternate drawing of the same symbol

## Q5015L5
designator Q?
Triac
simulation model Q5015L5 (SUBCKT)
pins: 1 M1, 2 M2, 3 G
1 alternate drawing of the same symbol

## Q5025R5
designator Q?
Triac
simulation model Q5025R5 (SUBCKT)
pins: 1 M1, 2 M2, 3 G
1 alternate drawing of the same symbol

## Q6004L3
designator Q?
Triac
simulation model Q6004L3 (SUBCKT)
pins: 1 M1, 2 M2, 3 G
1 alternate drawing of the same symbol

## Q6004L4
designator Q?
Triac
simulation model Q6004L4 (SUBCKT)
pins: 1 M1, 2 M2, 3 G
1 alternate drawing of the same symbol

## Q6006L5
designator Q?
Triac
simulation model Q6006L5 (SUBCKT)
pins: 1 M1, 2 M2, 3 G
1 alternate drawing of the same symbol

## Q6008L5
designator Q?
Triac
simulation model Q6008L5 (SUBCKT)
pins: 1 M1, 2 M2, 3 G
1 alternate drawing of the same symbol

## Q6010L5
designator Q?
Triac
simulation model Q6010L5 (SUBCKT)
pins: 1 M1, 2 M2, 3 G
1 alternate drawing of the same symbol

## Q6015L5
designator Q?
Triac
simulation model Q6015L5 (SUBCKT)
pins: 1 M1, 2 M2, 3 G
1 alternate drawing of the same symbol

## Q6025R5
designator Q?
Triac
simulation model Q6025R5 (SUBCKT)
pins: 1 M1, 2 M2, 3 G
1 alternate drawing of the same symbol

## Q7004L4
designator Q?
Triac
simulation model Q7004L4 (SUBCKT)
pins: 1 M1, 2 M2, 3 G
1 alternate drawing of the same symbol

## Q7006L5
designator Q?
Triac
simulation model Q7006L5 (SUBCKT)
pins: 1 M1, 2 M2, 3 G
1 alternate drawing of the same symbol

## Q7008L5
designator Q?
Triac
simulation model Q7008L5 (SUBCKT)
pins: 1 M1, 2 M2, 3 G
1 alternate drawing of the same symbol

## Q7010L5
designator Q?
Triac
simulation model Q7010L5 (SUBCKT)
pins: 1 M1, 2 M2, 3 G
1 alternate drawing of the same symbol

## Q7015L5
designator Q?
Triac
simulation model Q7015L5 (SUBCKT)
pins: 1 M1, 2 M2, 3 G
1 alternate drawing of the same symbol

## Q7025R5
designator Q?
Triac
simulation model Q7025R5 (SUBCKT)
pins: 1 M1, 2 M2, 3 G
1 alternate drawing of the same symbol

## Q8004L4
designator Q?
Triac
simulation model Q8004L4 (SUBCKT)
pins: 1 M1, 2 M2, 3 G
1 alternate drawing of the same symbol

## Q8006L5
designator Q?
Triac
simulation model Q8006L5 (SUBCKT)
pins: 1 M1, 2 M2, 3 G
1 alternate drawing of the same symbol

## Q8008L5
designator Q?
Triac
simulation model Q8008L5 (SUBCKT)
pins: 1 M1, 2 M2, 3 G
1 alternate drawing of the same symbol

## Q8010L5
designator Q?
Triac
simulation model Q8010L5 (SUBCKT)
pins: 1 M1, 2 M2, 3 G
1 alternate drawing of the same symbol

## Q8015L5
designator Q?
Triac
simulation model Q8015L5 (SUBCKT)
pins: 1 M1, 2 M2, 3 G
1 alternate drawing of the same symbol

## Q8025R5
designator Q?
Triac
simulation model Q8025R5 (SUBCKT)
pins: 1 M1, 2 M2, 3 G
1 alternate drawing of the same symbol

## S19CF
designator q?
Silicon Controlled Rectifier
simulation model S19CF (SUBCKT)
pins: 1 A, 2 G, 3 K
1 alternate drawing of the same symbol

## S0503LS1
designator q?
Silicon Controlled Rectifier
simulation model S0503LS1 (SUBCKT)
pins: 1 A, 2 G, 3 K
1 alternate drawing of the same symbol

## S0503LS2
designator q?
Silicon Controlled Rectifier
simulation model S0503LS2 (SUBCKT)
pins: 1 A, 2 G, 3 K
1 alternate drawing of the same symbol

## S0503LS3
designator q?
Silicon Controlled Rectifier
simulation model S0503LS3 (SUBCKT)
pins: 1 A, 2 G, 3 K
1 alternate drawing of the same symbol

## S0506LS2
designator q?
Silicon Controlled Rectifier
simulation model S0506LS2 (SUBCKT)
pins: 1 A, 2 G, 3 K
1 alternate drawing of the same symbol

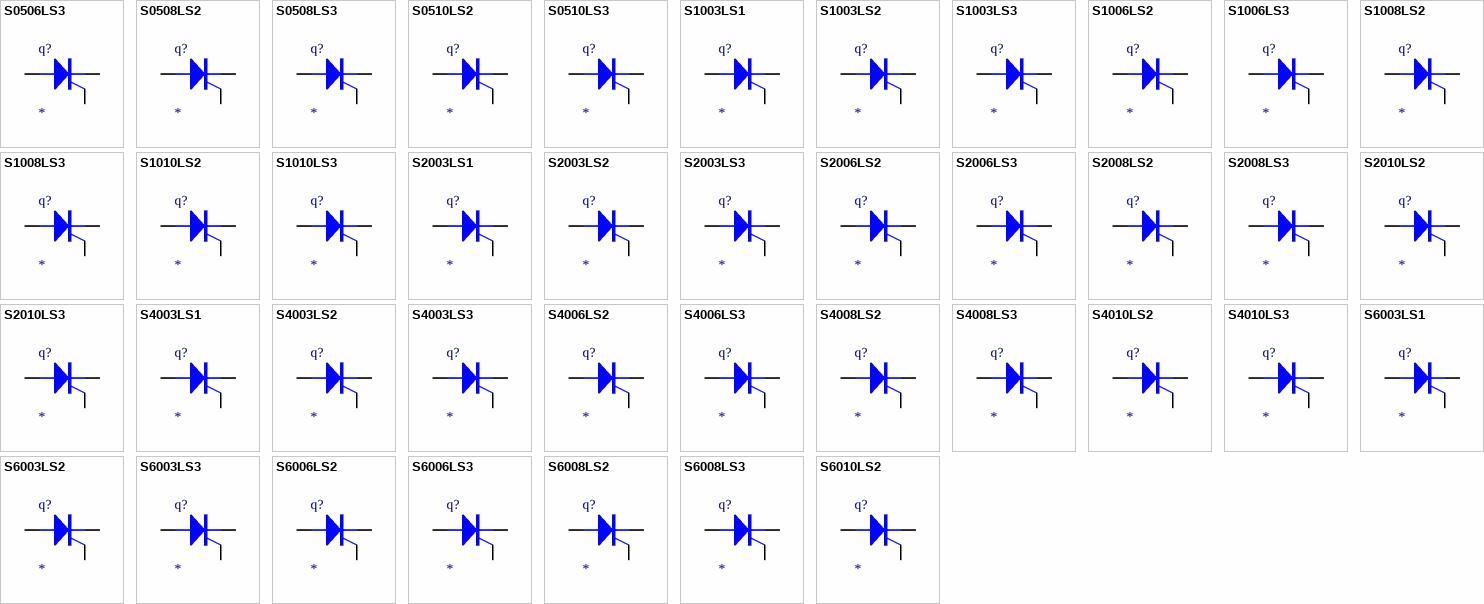
[diagram p7: symbols S0506LS3 to S6010LS2]

## S0506LS3
designator q?
Silicon Controlled Rectifier
simulation model S0506LS3 (SUBCKT)
pins: 1 A, 2 G, 3 K
1 alternate drawing of the same symbol

## S0508LS2
designator q?
Silicon Controlled Rectifier
simulation model S0508LS2 (SUBCKT)
pins: 1 A, 2 G, 3 K
1 alternate drawing of the same symbol

## S0508LS3
designator q?
Silicon Controlled Rectifier
simulation model S0508LS3 (SUBCKT)
pins: 1 A, 2 G, 3 K
1 alternate drawing of the same symbol

## S0510LS2
designator q?
Silicon Controlled Rectifier
simulation model S0510LS2 (SUBCKT)
pins: 1 A, 2 G, 3 K
1 alternate drawing of the same symbol

## S0510LS3
designator q?
Silicon Controlled Rectifier
simulation model S0510LS3 (SUBCKT)
pins: 1 A, 2 G, 3 K
1 alternate drawing of the same symbol

## S1003LS1
designator q?
Silicon Controlled Rectifier
simulation model S1003LS1 (SUBCKT)
pins: 1 A, 2 G, 3 K
1 alternate drawing of the same symbol

## S1003LS2
designator q?
Silicon Controlled Rectifier
simulation model S1003LS2 (SUBCKT)
pins: 1 A, 2 G, 3 K
1 alternate drawing of the same symbol

## S1003LS3
designator q?
Silicon Controlled Rectifier
simulation model S1003LS3 (SUBCKT)
pins: 1 A, 2 G, 3 K
1 alternate drawing of the same symbol

## S1006LS2
designator q?
Silicon Controlled Rectifier
simulation model S1006LS2 (SUBCKT)
pins: 1 A, 2 G, 3 K
1 alternate drawing of the same symbol

## S1006LS3
designator q?
Silicon Controlled Rectifier
simulation model S1006LS3 (SUBCKT)
pins: 1 A, 2 G, 3 K
1 alternate drawing of the same symbol

## S1008LS2
designator q?
Silicon Controlled Rectifier
simulation model S1008LS2 (SUBCKT)
pins: 1 A, 2 G, 3 K
1 alternate drawing of the same symbol

## S1008LS3
designator q?
Silicon Controlled Rectifier
simulation model S1008LS3 (SUBCKT)
pins: 1 A, 2 G, 3 K
1 alternate drawing of the same symbol

## S1010LS2
designator q?
Silicon Controlled Rectifier
simulation model S1010LS2 (SUBCKT)
pins: 1 A, 2 G, 3 K
1 alternate drawing of the same symbol

## S1010LS3
designator q?
Silicon Controlled Rectifier
simulation model S1010LS3 (SUBCKT)
pins: 1 A, 2 G, 3 K
1 alternate drawing of the same symbol

## S2003LS1
designator q?
Silicon Controlled Rectifier
simulation model S2003LS1 (SUBCKT)
pins: 1 A, 2 G, 3 K
1 alternate drawing of the same symbol

## S2003LS2
designator q?
Silicon Controlled Rectifier
simulation model S2003LS2 (SUBCKT)
pins: 1 A, 2 G, 3 K
1 alternate drawing of the same symbol

## S2003LS3
designator q?
Silicon Controlled Rectifier
simulation model S2003LS3 (SUBCKT)
pins: 1 A, 2 G, 3 K
1 alternate drawing of the same symbol

## S2006LS2
designator q?
Silicon Controlled Rectifier
simulation model S2006LS2 (SUBCKT)
pins: 1 A, 2 G, 3 K
1 alternate drawing of the same symbol

## S2006LS3
designator q?
Silicon Controlled Rectifier
simulation model S2006LS3 (SUBCKT)
pins: 1 A, 2 G, 3 K
1 alternate drawing of the same symbol

## S2008LS2
designator q?
Silicon Controlled Rectifier
simulation model S2008LS2 (SUBCKT)
pins: 1 A, 2 G, 3 K
1 alternate drawing of the same symbol

## S2008LS3
designator q?
Silicon Controlled Rectifier
simulation model S2008LS3 (SUBCKT)
pins: 1 A, 2 G, 3 K
1 alternate drawing of the same symbol

## S2010LS2
designator q?
Silicon Controlled Rectifier
simulation model S2010LS2 (SUBCKT)
pins: 1 A, 2 G, 3 K
1 alternate drawing of the same symbol

## S2010LS3
designator q?
Silicon Controlled Rectifier
simulation model S2010LS3 (SUBCKT)
pins: 1 A, 2 G, 3 K
1 alternate drawing of the same symbol

## S4003LS1
designator q?
Silicon Controlled Rectifier
simulation model S4003LS1 (SUBCKT)
pins: 1 A, 2 G, 3 K
1 alternate drawing of the same symbol

## S4003LS2
designator q?
Silicon Controlled Rectifier
simulation model S4003LS2 (SUBCKT)
pins: 1 A, 2 G, 3 K
1 alternate drawing of the same symbol

## S4003LS3
designator q?
Silicon Controlled Rectifier
simulation model S4003LS3 (SUBCKT)
pins: 1 A, 2 G, 3 K
1 alternate drawing of the same symbol

## S4006LS2
designator q?
Silicon Controlled Rectifier
simulation model S4006LS2 (SUBCKT)
pins: 1 A, 2 G, 3 K
1 alternate drawing of the same symbol

## S4006LS3
designator q?
Silicon Controlled Rectifier
simulation model S4006LS3 (SUBCKT)
pins: 1 A, 2 G, 3 K
1 alternate drawing of the same symbol

## S4008LS2
designator q?
Silicon Controlled Rectifier
simulation model S4008LS2 (SUBCKT)
pins: 1 A, 2 G, 3 K
1 alternate drawing of the same symbol

## S4008LS3
designator q?
Silicon Controlled Rectifier
simulation model S4008LS3 (SUBCKT)
pins: 1 A, 2 G, 3 K
1 alternate drawing of the same symbol

## S4010LS2
designator q?
Silicon Controlled Rectifier
simulation model S4010LS2 (SUBCKT)
pins: 1 A, 2 G, 3 K
1 alternate drawing of the same symbol

## S4010LS3
designator q?
Silicon Controlled Rectifier
simulation model S4010LS3 (SUBCKT)
pins: 1 A, 2 G, 3 K
1 alternate drawing of the same symbol

## S6003LS1
designator q?
Silicon Controlled Rectifier
simulation model S6003LS1 (SUBCKT)
pins: 1 A, 2 G, 3 K
1 alternate drawing of the same symbol

## S6003LS2
designator q?
Silicon Controlled Rectifier
simulation model S6003LS2 (SUBCKT)
pins: 1 A, 2 G, 3 K
1 alternate drawing of the same symbol

## S6003LS3
designator q?
Silicon Controlled Rectifier
simulation model S6003LS3 (SUBCKT)
pins: 1 A, 2 G, 3 K
1 alternate drawing of the same symbol

## S6006LS2
designator q?
Silicon Controlled Rectifier
simulation model S6006LS2 (SUBCKT)
pins: 1 A, 2 G, 3 K
1 alternate drawing of the same symbol

## S6006LS3
designator q?
Silicon Controlled Rectifier
simulation model S6006LS3 (SUBCKT)
pins: 1 A, 2 G, 3 K
1 alternate drawing of the same symbol

## S6008LS2
designator q?
Silicon Controlled Rectifier
simulation model S6008LS2 (SUBCKT)
pins: 1 A, 2 G, 3 K
1 alternate drawing of the same symbol

## S6008LS3
designator q?
Silicon Controlled Rectifier
simulation model S6008LS3 (SUBCKT)
pins: 1 A, 2 G, 3 K
1 alternate drawing of the same symbol

## S6010LS2
designator q?
Silicon Controlled Rectifier
simulation model S6010LS2 (SUBCKT)
pins: 1 A, 2 G, 3 K
1 alternate drawing of the same symbol

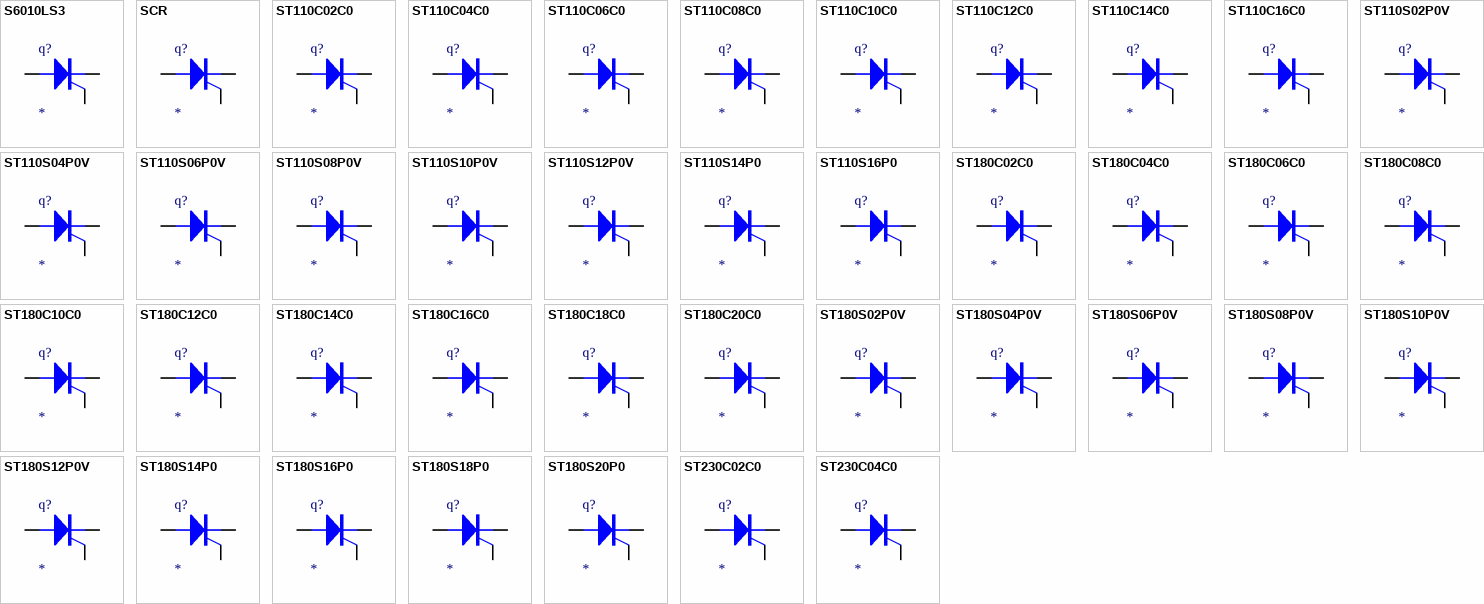
[diagram p8: symbols S6010LS3 to ST230C04C0]

## S6010LS3
designator q?
Silicon Controlled Rectifier
simulation model S6010LS3 (SUBCKT)
pins: 1 A, 2 G, 3 K
1 alternate drawing of the same symbol

## SCR
designator q?
Silicon Controlled Rectifier
simulation model SCR (SUBCKT)
pins: 1 A, 2 G, 3 K
1 alternate drawing of the same symbol

## ST110C02C0
designator q?
Silicon Controlled Rectifier
simulation model ST110C02C0 (SUBCKT)
pins: 1 A, 2 G, 3 K
1 alternate drawing of the same symbol

## ST110C04C0
designator q?
Silicon Controlled Rectifier
simulation model ST110C04C0 (SUBCKT)
pins: 1 A, 2 G, 3 K
1 alternate drawing of the same symbol

## ST110C06C0
designator q?
Silicon Controlled Rectifier
simulation model ST110C06C0 (SUBCKT)
pins: 1 A, 2 G, 3 K
1 alternate drawing of the same symbol

## ST110C08C0
designator q?
Silicon Controlled Rectifier
simulation model ST110C08C0 (SUBCKT)
pins: 1 A, 2 G, 3 K
1 alternate drawing of the same symbol

## ST110C10C0
designator q?
Silicon Controlled Rectifier
simulation model ST110C10C0 (SUBCKT)
pins: 1 A, 2 G, 3 K
1 alternate drawing of the same symbol

## ST110C12C0
designator q?
Silicon Controlled Rectifier
simulation model ST110C12C0 (SUBCKT)
pins: 1 A, 2 G, 3 K
1 alternate drawing of the same symbol

## ST110C14C0
designator q?
Silicon Controlled Rectifier
simulation model ST110C14C0 (SUBCKT)
pins: 1 A, 2 G, 3 K
1 alternate drawing of the same symbol

## ST110C16C0
designator q?
Silicon Controlled Rectifier
simulation model ST110C16C0 (SUBCKT)
pins: 1 A, 2 G, 3 K
1 alternate drawing of the same symbol

## ST110S02P0V
designator q?
Silicon Controlled Rectifier
simulation model ST110S02P0V (SUBCKT)
pins: 1 A, 2 G, 3 K
1 alternate drawing of the same symbol

## ST110S04P0V
designator q?
Silicon Controlled Rectifier
simulation model ST110S04P0V (SUBCKT)
pins: 1 A, 2 G, 3 K
1 alternate drawing of the same symbol

## ST110S06P0V
designator q?
Silicon Controlled Rectifier
simulation model ST110S06P0V (SUBCKT)
pins: 1 A, 2 G, 3 K
1 alternate drawing of the same symbol

## ST110S08P0V
designator q?
Silicon Controlled Rectifier
simulation model ST110S08P0V (SUBCKT)
pins: 1 A, 2 G, 3 K
1 alternate drawing of the same symbol

## ST110S10P0V
designator q?
Silicon Controlled Rectifier
simulation model ST110S10P0V (SUBCKT)
pins: 1 A, 2 G, 3 K
1 alternate drawing of the same symbol

## ST110S12P0V
designator q?
Silicon Controlled Rectifier
simulation model ST110S12P0V (SUBCKT)
pins: 1 A, 2 G, 3 K
1 alternate drawing of the same symbol

## ST110S14P0
designator q?
Silicon Controlled Rectifier
simulation model ST110S14P0 (SUBCKT)
pins: 1 A, 2 G, 3 K
1 alternate drawing of the same symbol

## ST110S16P0
designator q?
Silicon Controlled Rectifier
simulation model ST110S16P0 (SUBCKT)
pins: 1 A, 2 G, 3 K
1 alternate drawing of the same symbol

## ST180C02C0
designator q?
Silicon Controlled Rectifier
simulation model ST180C02C0 (SUBCKT)
pins: 1 A, 2 G, 3 K
1 alternate drawing of the same symbol

## ST180C04C0
designator q?
Silicon Controlled Rectifier
simulation model ST180C04C0 (SUBCKT)
pins: 1 A, 2 G, 3 K
1 alternate drawing of the same symbol

## ST180C06C0
designator q?
Silicon Controlled Rectifier
simulation model ST180C06C0 (SUBCKT)
pins: 1 A, 2 G, 3 K
1 alternate drawing of the same symbol